# Altium schematic symbol library Schlib1.SchLib: 2 symbols
Pins are listed as number, name and electrical type; pins without a type are passive.

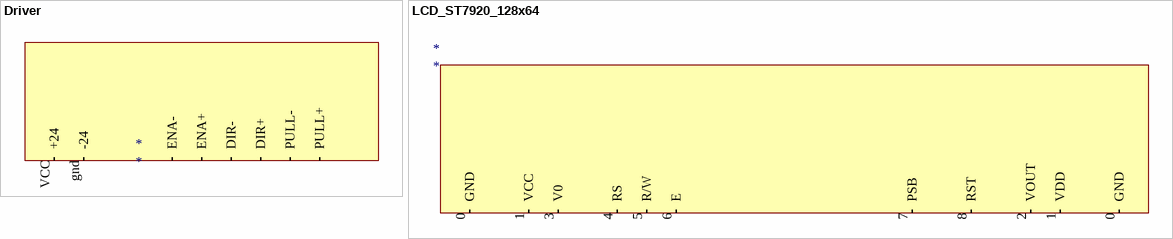
[diagram p0: symbols Driver to LCD_ST7920_128x64]

## Driver
designator *
pins: ?1 ENA-, ?2 ENA+, ?3 DIR-, ?4 DIR+, ?5 PULL-, ?6 PULL+, gnd -24, VCC +24

## LCD_ST7920_128x64
designator *
pins: 0 GND (power), 0 GND (power), 1 VCC (power), 1 VDD (power), 2 VOUT (in), 3 V0 (in), 4 RS (in), 5 R/W (in), 6 E (in), 7 PSB (in), 8 RST (in)